# Altium footprint library micro-philips.PCBLIB: 60 footprints (part 2 of 5)
Each footprint in its own frame and in the unit in brackets; x right, y up, seen from the top. Pads: shape width x height; smd on the part's side, far side on the other; paste and mask are expansions set on the pad; w line width, h text height; cw(c..) or ccw(c..) is an arc to the next point about the centre after c.
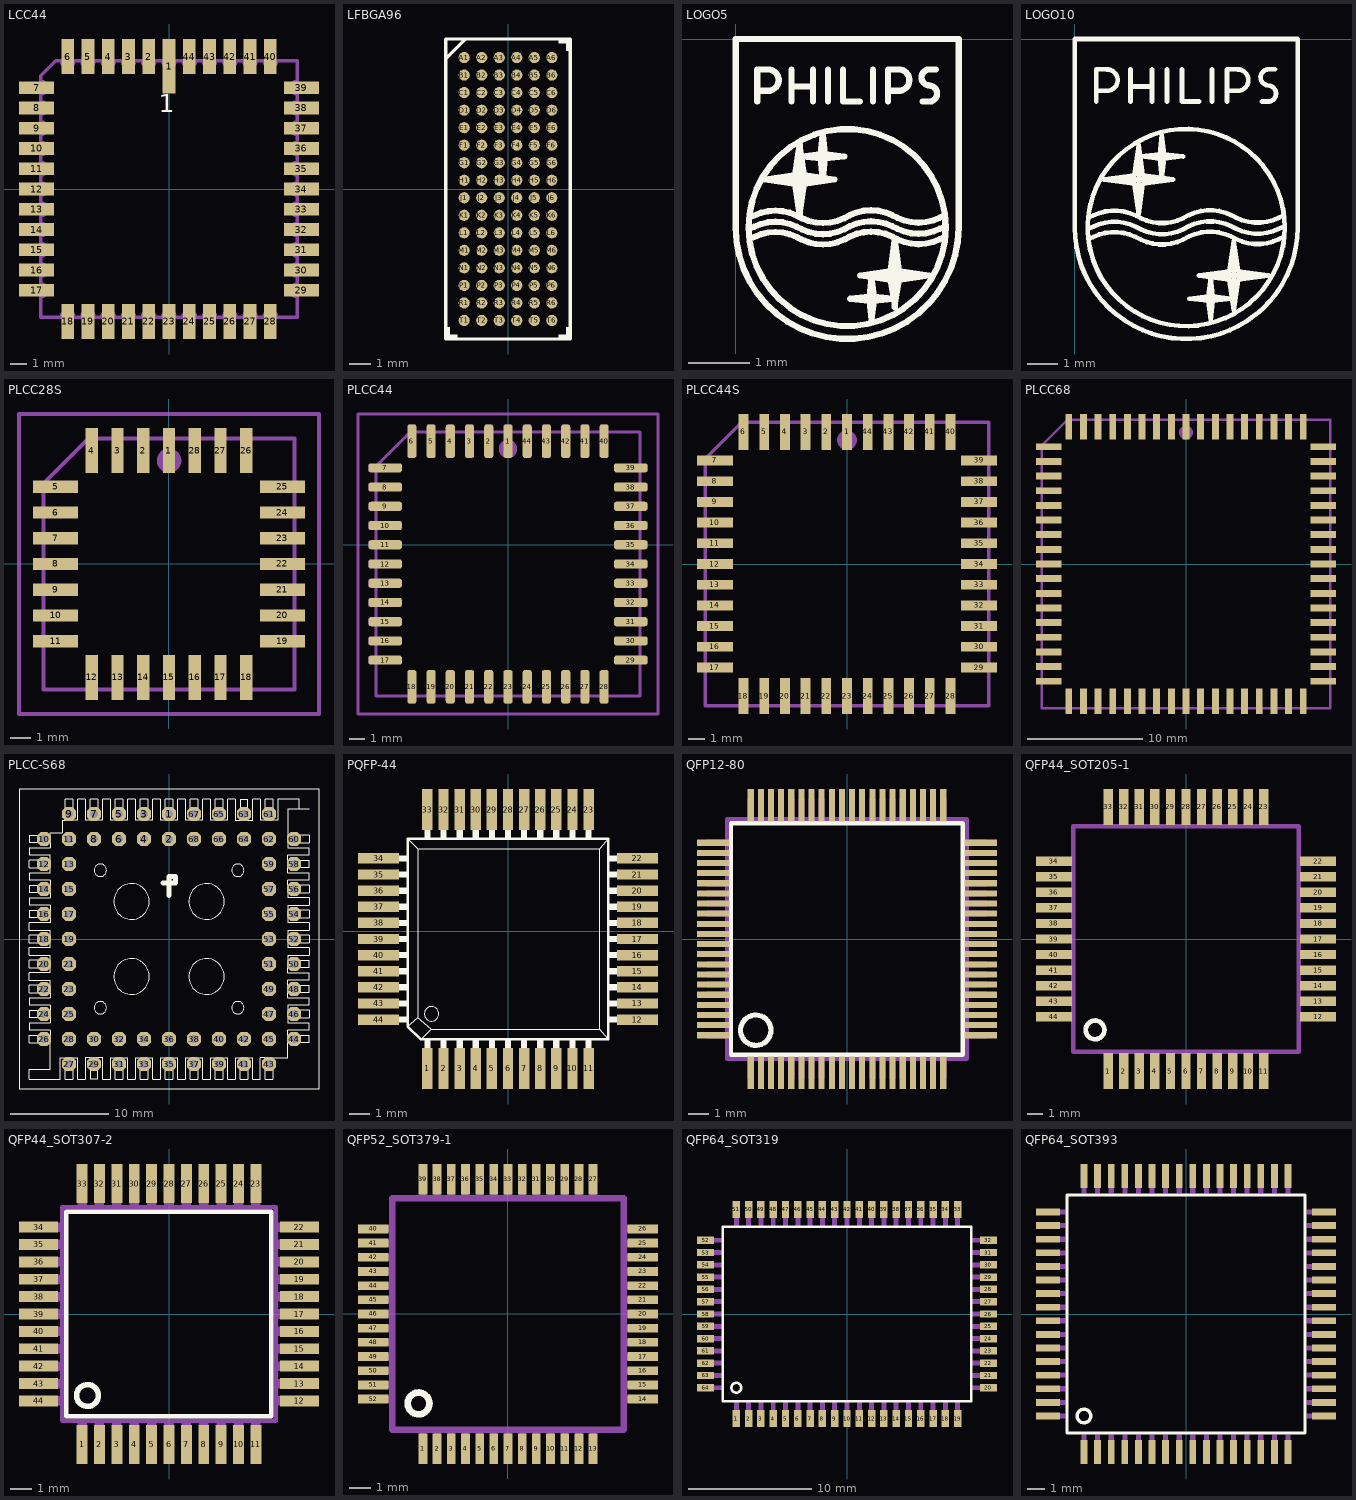
[diagram p1: the footprints below, top view; thin cyan lines are the x and y axes]

## LCC44 [mil]
pads (44):
  rect 31.5x133.86 smd: 1(0,303.15)
  rect 31.5x86.61 smd: 2(-50,326.77) 3(-100,326.77) 4(-150,326.77) 5(-200,326.77) 6(-250,326.77) 18(-250,-326.77) 19(-200,-326.77) 20(-150,-326.77) 21(-100,-326.77) 22(-50,-326.77) 23(0,-326.77) 24(50,-326.77) 25(100,-326.77) 26(150,-326.77) 27(200,-326.77) 28(250,-326.77) 40(250,326.77) 41(200,326.77) 42(150,326.77) 43(100,326.77) 44(50,326.77)
  rect 86.61x31.5 smd: 7(-326.77,250) 8(-326.77,200) 9(-326.77,150) 10(-326.77,100) 11(-326.77,50) 12(-326.77,0) 13(-326.77,-50) 14(-326.77,-100) 15(-326.77,-150) 16(-326.77,-200) 17(-326.77,-250) 29(326.77,-250) 30(326.77,-200) 31(326.77,-150) 32(326.77,-100) 33(326.77,-50) 34(326.77,0) 35(326.77,50) 36(326.77,100) 37(326.77,150) 38(326.77,200) 39(326.77,250)
Top Overlay:
  text "1" at -25,175 h77.5
Mechanical 16:
  lines w8: -316.14,-265.75 -316.14,-316.14 -265.75,-316.14 ; -316.14,-234.25 -316.14,-215.75 ; -316.14,-184.25 -316.14,-165.75 ; -316.14,-134.25 -316.14,-115.75 ; -316.14,-84.25 -316.14,-65.75 ; -316.14,-34.25 -316.14,-15.75 ; -316.14,15.75 -316.14,34.25 ; -316.14,65.75 -316.14,84.25 ; -316.14,115.75 -316.14,134.25 ; -316.14,165.75 -316.14,184.25 ; -316.14,215.75 -316.14,234.25 ; -316.14,265.75 -316.14,279.92 -279.92,316.14 -265.75,316.14 ; -316.08,-265.75 ccw(c-316.08,-250) -316.08,-234.25 ; -316.08,-215.75 ccw(c-316.08,-200) -316.08,-184.25 ; -316.08,-165.75 ccw(c-316.08,-150) -316.08,-134.25 ; -316.08,-115.75 ccw(c-316.08,-100) -316.08,-84.25 ; -316.08,-65.75 ccw(c-316.08,-50) -316.08,-34.25 ; -316.08,-15.75 ccw(c-316.08,0) -316.08,15.75 ; -316.08,34.25 ccw(c-316.08,50) -316.08,65.75 ; -316.08,84.25 ccw(c-316.08,100) -316.08,115.75 ; -316.08,134.25 ccw(c-316.08,150) -316.08,165.75 ; -316.08,184.25 ccw(c-316.08,200) -316.08,215.75 ; -316.08,234.25 ccw(c-316.08,250) -316.08,265.75 ; -265.75,-316.08 cw(c-250,-316.08) -234.25,-316.08 ; -265.75,316.08 ccw(c-250,316.08) -234.25,316.08 ; -234.25,-316.14 -215.75,-316.14 ; -234.25,316.14 -215.75,316.14 ; -215.75,-316.08 cw(c-200,-316.08) -184.25,-316.08 ; -215.75,316.08 ccw(c-200,316.08) -184.25,316.08 ; -184.25,-316.14 -165.75,-316.14 ; -184.25,316.14 -165.75,316.14 ; -165.75,-316.08 cw(c-150,-316.08) -134.25,-316.08 ; -165.75,316.08 ccw(c-150,316.08) -134.25,316.08 ; -134.25,-316.14 -115.75,-316.14 ; -134.25,316.14 -115.75,316.14 ; -115.75,-316.08 cw(c-100,-316.08) -84.25,-316.08 ; -115.75,316.08 ccw(c-100,316.08) -84.25,316.08 ; -84.25,-316.14 -65.75,-316.14 ; -84.25,316.14 -65.75,316.14 ; -65.75,-316.08 cw(c-50,-316.08) -34.25,-316.08 ; -65.75,316.08 ccw(c-50,316.08) -34.25,316.08 ; -34.25,-316.14 -15.75,-316.14 ; -34.25,316.14 -15.75,316.14 ; -15.75,-316.08 cw(c0,-316.08) 15.75,-316.08 ; -15.75,316.08 ccw(c0,316.08) 15.75,316.08 ; 15.75,-316.14 34.25,-316.14 ; 15.75,316.14 34.25,316.14 ; 34.25,-316.08 cw(c50,-316.08) 65.75,-316.08 ; 34.25,316.08 ccw(c50,316.08) 65.75,316.08 ; 65.75,-316.14 84.25,-316.14 ; 65.75,316.14 84.25,316.14 ; 84.25,-316.08 cw(c100,-316.08) 115.75,-316.08 ; 84.25,316.08 ccw(c100,316.08) 115.75,316.08 ; 115.75,-316.14 134.25,-316.14 ; 115.75,316.14 134.25,316.14 ; 134.25,-316.08 cw(c150,-316.08) 165.75,-316.08 ; 134.25,316.08 ccw(c150,316.08) 165.75,316.08 ; 165.75,-316.14 184.25,-316.14 ; 165.75,316.14 184.25,316.14 ; 184.25,-316.08 cw(c200,-316.08) 215.75,-316.08 ; 184.25,316.08 ccw(c200,316.08) 215.75,316.08 ; 215.75,-316.14 234.25,-316.14 ; 215.75,316.14 234.25,316.14 ; 234.25,-316.08 cw(c250,-316.08) 265.75,-316.08 ; 234.25,316.08 ccw(c250,316.08) 265.75,316.08 ; 265.75,-316.14 316.14,-316.14 316.14,-265.75 ; 265.75,316.14 316.14,316.14 316.14,265.75 ; 316.08,-265.75 cw(c316.08,-250) 316.08,-234.25 ; 316.08,-215.75 cw(c316.08,-200) 316.08,-184.25 ; 316.08,-165.75 cw(c316.08,-150) 316.08,-134.25 ; 316.08,-115.75 cw(c316.08,-100) 316.08,-84.25 ; 316.08,-65.75 cw(c316.08,-50) 316.08,-34.25 ; 316.08,-15.75 cw(c316.08,0) 316.08,15.75 ; 316.08,34.25 cw(c316.08,50) 316.08,65.75 ; 316.08,84.25 cw(c316.08,100) 316.08,115.75 ; 316.08,134.25 cw(c316.08,150) 316.08,165.75 ; 316.08,184.25 cw(c316.08,200) 316.08,215.75 ; 316.08,234.25 cw(c316.08,250) 316.08,265.75 ; 316.14,-234.25 316.14,-215.75 ; 316.14,-184.25 316.14,-165.75 ; 316.14,-134.25 316.14,-115.75 ; 316.14,-84.25 316.14,-65.75 ; 316.14,-34.25 316.14,-15.75 ; 316.14,15.75 316.14,34.25 ; 316.14,65.75 316.14,84.25 ; 316.14,115.75 316.14,134.25 ; 316.14,165.75 316.14,184.25 ; 316.14,215.75 316.14,234.25

## LFBGA96 [mm]
pads (96):
  rrect100% 0.51x0.51 smd: A1(-2,6) A2(-1.2,6) A3(-0.4,6) A4(0.4,6) A5(1.2,6) A6(2,6) B1(-2,5.2) B2(-1.2,5.2) B3(-0.4,5.2) B4(0.4,5.2) B5(1.2,5.2) B6(2,5.2) C1(-2,4.4) C2(-1.2,4.4) C3(-0.4,4.4) C4(0.4,4.4) C5(1.2,4.4) C6(2,4.4) D1(-2,3.6) D2(-1.2,3.6) D3(-0.4,3.6) D4(0.4,3.6) D5(1.2,3.6) D6(2,3.6) E1(-2,2.8) E2(-1.2,2.8) E3(-0.4,2.8) E4(0.4,2.8) E5(1.2,2.8) E6(2,2.8) F1(-2,2) F2(-1.2,2) F3(-0.4,2) F4(0.4,2) F5(1.2,2) F6(2,2) G1(-2,1.2) G2(-1.2,1.2) G3(-0.4,1.2) G4(0.4,1.2) G5(1.2,1.2) G6(2,1.2) H1(-2,0.4) H2(-1.2,0.4) H3(-0.4,0.4) H4(0.4,0.4) H5(1.2,0.4) H6(2,0.4) J1(-2,-0.4) J2(-1.2,-0.4) J3(-0.4,-0.4) J4(0.4,-0.4) J5(1.2,-0.4) J6(2,-0.4) K1(-2,-1.2) K2(-1.2,-1.2) K3(-0.4,-1.2) K4(0.4,-1.2) K5(1.2,-1.2) K6(2,-1.2) L1(-2,-2) L2(-1.2,-2) L3(-0.4,-2) L4(0.4,-2) L5(1.2,-2) L6(2,-2) M1(-2,-2.8) M2(-1.2,-2.8) M3(-0.4,-2.8) M4(0.4,-2.8) M5(1.2,-2.8) M6(2,-2.8) N1(-2,-3.6) N2(-1.2,-3.6) N3(-0.4,-3.6) N4(0.4,-3.6) N5(1.2,-3.6) N6(2,-3.6) P1(-2,-4.4) P2(-1.2,-4.4) P3(-0.4,-4.4) P4(0.4,-4.4) P5(1.2,-4.4) P6(2,-4.4) R1(-2,-5.2) R2(-1.2,-5.2) R3(-0.4,-5.2) R4(0.4,-5.2) R5(1.2,-5.2) R6(2,-5.2) T1(-2,-6) T2(-1.2,-6) T3(-0.4,-6) T4(0.4,-6) T5(1.2,-6) T6(2,-6)
Top Overlay:
  rectangle: 2.3,6.65 2.8,6.8
  rectangle: 2.65,6.3 2.8,6.8
  rectangle: 2.65,-6.8 2.8,-6.3
  rectangle: 2.3,-6.8 2.8,-6.65
  rectangle: -2.8,-6.8 -2.3,-6.65
  rectangle: -2.8,-6.8 -2.65,-6.3
  lines w0.152: -2.8,6 -2,6.8 ; -2.85,-6.85 2.85,-6.85 2.85,6.85 -2.85,6.85 -2.85,-6.85

## LOGO5 [mm]
Top Overlay:
  circle w0.102: c1.813,-3.067 r1.604
  lines w0.102: 0.23,-3.249 0.3,-3.221 cw(c0.645,-3.918) 0.99,-3.221 1.074,-3.263 ccw(c1.419,-2.566) 1.764,-3.263 1.855,-3.214 cw(c2.2,-3.911) 2.545,-3.214 2.629,-3.256 ccw(c2.974,-2.559) 3.319,-3.256 ; 0.23,-3.081 0.3,-3.054 cw(c0.645,-3.751) 0.99,-3.054 1.074,-3.095 ccw(c1.419,-2.398) 1.764,-3.095 1.855,-3.047 cw(c2.2,-3.744) 2.545,-3.047 2.629,-3.088 ccw(c2.974,-2.391) 3.319,-3.088 ; 0.23,-2.9 0.3,-2.872 cw(c0.645,-3.569) 0.99,-2.872 1.074,-2.914 ccw(c1.419,-2.217) 1.764,-2.914 1.855,-2.865 cw(c2.2,-3.562) 2.545,-2.865 2.629,-2.907 ccw(c2.974,-2.21) 3.319,-2.907 ; 0.349,-1.018 0.349,-0.843 ; 0.524,-0.495 0.349,-0.495 0.349,-0.843 ; 0.524,-0.494 cw(c0.524,-0.669) 0.524,-0.843 0.349,-0.843 ; 0.907,-1.018 0.907,-0.774 ; 0.907,-0.495 0.907,-0.774 ; 1.039,-2.37 1.039,-2.342 ; 1.256,-1.018 1.256,-0.774 ; 1.256,-0.495 1.256,-0.774 ; 1.5,-1.018 1.5,-0.495 ; 1.744,-0.495 1.744,-1.018 2.023,-1.018 ; 2.21,-4.569 2.21,-3.876 ; 2.232,-1.018 2.232,-0.495 ; 2.476,-1.018 2.476,-0.843 ; 2.587,-4.364 2.587,-4.286 ; 2.587,-3.765 2.587,-3.793 ; 2.65,-0.495 2.476,-0.495 2.476,-0.843 ; 2.65,-0.494 cw(c2.65,-0.669) 2.65,-0.843 2.476,-0.843 ; 3.041,-1.018 3.145,-1.018 ccw(c3.145,-0.888) 3.166,-0.76 3.131,-0.753 cw(c3.152,-0.625) 3.152,-0.495 3.257,-0.495 ; 3.319,-3.256 3.403,-3.214 ; 3.319,-3.088 3.396,-3.054 ; 3.319,-2.907 3.375,-2.879 ; 0.474,-2.287 0.969,-2.356 1.039,-2.851 ; 0.474,-2.287 0.969,-2.217 1.039,-1.722 ; 0.474,-2.287 1.604,-2.287 ; 0.907,-0.774 1.256,-0.774 ; 1.039,-2.851 1.109,-2.356 1.604,-2.287 ; 1.039,-2.851 1.039,-2.342 ; 1.039,-2.342 1.039,-1.722 ; 1.039,-1.722 1.109,-2.217 1.604,-2.287 ; 1.067,-1.91 1.381,-1.945 1.415,-2.259 ; 1.067,-1.91 1.381,-1.875 1.415,-1.561 ; 1.067,-1.91 1.764,-1.91 ; 1.415,-2.259 1.45,-1.945 1.764,-1.91 ; 1.415,-2.259 1.415,-1.561 ; 1.415,-1.561 1.45,-1.875 1.764,-1.91 ; 1.862,-4.225 2.175,-4.26 2.21,-4.573 2.245,-4.26 2.559,-4.225 ; 1.862,-4.225 2.175,-4.19 2.21,-3.876 ; 1.862,-4.225 2.559,-4.225 ; 2.022,-3.848 2.517,-3.918 2.587,-4.286 ; 2.022,-3.848 2.517,-3.779 2.587,-3.284 ; 2.022,-3.848 3.152,-3.848 ; 2.21,-3.876 2.245,-4.19 2.559,-4.225 ; 2.587,-4.286 2.657,-3.918 3.152,-3.848 ; 2.587,-4.286 2.587,-3.793 ; 2.587,-3.793 2.587,-3.284 ; 2.587,-3.284 2.657,-3.779 3.152,-3.848 ; 0,-3.067 ccw(c1.813,-3.067) 3.626,-3.067 3.626,0 0,0 0,-3.067

## LOGO10 [mm]
Top Overlay:
  circle w0.152: c3.626,-6.135 r3.207
  lines w0.152: 0.46,-6.497 0.6,-6.442 cw(c1.29,-7.836) 1.98,-6.442 2.147,-6.525 ccw(c2.837,-5.131) 3.528,-6.525 3.709,-6.428 cw(c4.399,-7.823) 5.09,-6.428 5.257,-6.511 ccw(c5.947,-5.117) 6.638,-6.511 ; 0.46,-6.163 0.6,-6.107 cw(c1.29,-7.501) 1.98,-6.107 2.147,-6.191 ccw(c2.837,-4.797) 3.528,-6.191 3.709,-6.093 cw(c4.399,-7.487) 5.09,-6.093 5.257,-6.177 ccw(c5.947,-4.783) 6.638,-6.177 ; 0.46,-5.8 0.6,-5.744 cw(c1.29,-7.138) 1.98,-5.744 2.147,-5.828 ccw(c2.837,-4.434) 3.528,-5.828 3.709,-5.73 cw(c4.399,-7.125) 5.09,-5.73 5.257,-5.814 ccw(c5.947,-4.42) 6.638,-5.814 ; 0.699,-2.035 0.699,-1.687 ; 1.814,-2.035 1.814,-1.547 ; 1.814,-0.989 1.814,-1.547 ; 2.078,-4.74 2.078,-4.685 ; 2.511,-2.035 2.511,-1.547 ; 2.511,-0.989 2.511,-1.547 ; 3,-2.035 3,-0.989 ; 3.138,-4.573 0.948,-4.573 ; 3.488,-0.989 3.488,-2.035 4.045,-2.035 ; 4.42,-9.139 4.42,-7.752 ; 4.464,-2.035 4.464,-0.989 ; 4.952,-2.035 4.952,-1.687 ; 5.173,-7.529 5.173,-7.585 ; 6.081,-2.035 6.29,-2.035 ccw(c6.29,-1.775) 6.332,-1.519 6.263,-1.505 cw(c6.304,-1.249) 6.304,-0.989 6.514,-0.989 ; 6.638,-6.511 6.805,-6.428 ; 6.638,-6.177 6.791,-6.107 ; 6.638,-5.814 6.749,-5.758 ; 7.251,-6.135 7.251,0 0,0 0,-6.135 ccw(c3.626,-6.135) 7.251,-6.135 ; 0.699,-1.687 0.699,-0.989 1.047,-0.989 cw(c1.047,-1.338) 1.047,-1.687 0.699,-1.687 ; 0.948,-4.573 1.938,-4.713 2.078,-5.703 ; 0.948,-4.573 1.938,-4.434 2.078,-3.444 ; 1.814,-1.547 2.511,-1.547 ; 2.078,-5.703 2.217,-4.713 3.207,-4.573 2.217,-4.434 2.078,-3.444 ; 2.078,-5.703 2.078,-4.685 ; 2.078,-4.685 2.078,-3.444 ; 2.134,-3.82 2.761,-3.89 2.831,-4.517 ; 2.134,-3.82 2.761,-3.75 2.831,-3.123 ; 2.134,-3.82 3.517,-3.82 3.528,-3.82 ; 2.831,-4.517 2.901,-3.89 3.528,-3.82 ; 2.831,-4.517 2.831,-3.123 ; 2.831,-3.123 2.901,-3.75 3.528,-3.82 ; 3.723,-8.45 4.351,-8.519 4.42,-9.147 4.49,-8.519 5.118,-8.45 ; 3.723,-8.45 4.351,-8.38 4.42,-7.752 ; 3.723,-8.45 5.118,-8.45 ; 4.044,-7.697 5.034,-7.836 5.173,-8.826 ; 4.044,-7.697 5.034,-7.557 5.173,-6.567 ; 4.044,-7.697 6.303,-7.697 ; 4.42,-7.752 4.49,-8.38 5.118,-8.45 ; 4.952,-1.687 4.952,-0.989 5.3,-0.989 cw(c5.3,-1.338) 5.3,-1.687 4.952,-1.687 ; 5.173,-8.826 5.313,-7.836 6.303,-7.697 ; 5.173,-8.826 5.173,-7.585 ; 5.173,-7.585 5.173,-6.567 ; 5.173,-6.567 5.313,-7.557 6.303,-7.697

## PLCC28S [mm]
pads (28):
  rect 0.6x2.2 smd: 1(0,5.6) 2(-1.27,5.6) 3(-2.54,5.6) 4(-3.81,5.6) 12(-3.81,-5.6) 13(-2.54,-5.6) 14(-1.27,-5.6) 15(0,-5.6) 16(1.27,-5.6) 17(2.54,-5.6) 18(3.81,-5.6) 26(3.81,5.6) 27(2.54,5.6) 28(1.27,5.6)
  rect 2.2x0.6 smd: 5(-5.6,3.81) 6(-5.6,2.54) 7(-5.6,1.27) 8(-5.6,0) 9(-5.6,-1.27) 10(-5.6,-2.54) 11(-5.6,-3.81) 19(5.6,-3.81) 20(5.6,-2.54) 21(5.6,-1.27) 22(5.6,0) 23(5.6,1.27) 24(5.6,2.54) 25(5.6,3.81)
Mechanical 16:
  circle w0.61: c0,5.1 r0.3
  rectangle: -0.26,6.25 0.26,6.7
  rectangle: -1.53,6.25 -1.01,6.7
  rectangle: -2.8,6.25 -2.28,6.7
  rectangle: -4.07,6.25 -3.55,6.7
  rectangle: -6.7,3.55 -6.25,4.07
  rectangle: -6.7,2.28 -6.25,2.8
  rectangle: -6.7,1.01 -6.25,1.53
  rectangle: -6.7,-0.26 -6.25,0.26
  rectangle: -6.7,-1.53 -6.25,-1.01
  rectangle: -6.7,-2.8 -6.25,-2.28
  rectangle: -6.7,-4.07 -6.25,-3.55
  rectangle: -4.07,-6.7 -3.55,-6.25
  rectangle: -2.8,-6.7 -2.28,-6.25
  rectangle: -1.53,-6.7 -1.01,-6.25
  rectangle: -0.26,-6.7 0.26,-6.25
  rectangle: 1.01,-6.7 1.53,-6.25
  rectangle: 2.28,-6.7 2.8,-6.25
  rectangle: 3.55,-6.7 4.07,-6.25
  rectangle: 6.25,-4.07 6.7,-3.55
  rectangle: 6.25,-2.8 6.7,-2.28
  rectangle: 6.25,-1.53 6.7,-1.01
  rectangle: 6.25,-0.26 6.7,0.26
  rectangle: 6.25,1.01 6.7,1.53
  rectangle: 6.25,2.28 6.7,2.8
  rectangle: 6.25,3.55 6.7,4.07
  rectangle: 3.55,6.25 4.07,6.7
  rectangle: 2.28,6.25 2.8,6.7
  rectangle: 1.01,6.25 1.53,6.7
  lines w0.203: -6.2,-6.2 -6.2,3.965 -3.965,6.2 6.2,6.2 6.2,-6.2 -6.2,-6.2
Mechanical 27:
  lines w0.2: -7.403,-7.403 7.403,-7.403 7.403,7.403 -7.403,7.403 -7.403,-7.403

## PLCC44 [mm]
pads (44):
  rrect50% 0.6x2.2 smd: 1(0,6.83) 2(-1.27,6.83) 3(-2.54,6.83) 4(-3.81,6.83) 5(-5.08,6.83) 6(-6.35,6.83) 18(-6.35,-9.37) 19(-5.08,-9.37) 20(-3.81,-9.37) 21(-2.54,-9.37) 22(-1.27,-9.37) 23(0,-9.37) 24(1.27,-9.37) 25(2.54,-9.37) 26(3.81,-9.37) 27(5.08,-9.37) 28(6.35,-9.37) 40(6.35,6.83) 41(5.08,6.83) 42(3.81,6.83) 43(2.54,6.83) 44(1.27,6.83)
  rrect50% 2.2x0.6 smd: 7(-8.1,5.08) 8(-8.1,3.81) 9(-8.1,2.54) 10(-8.1,1.27) 11(-8.1,0) 12(-8.1,-1.27) 13(-8.1,-2.54) 14(-8.1,-3.81) 15(-8.1,-5.08) 16(-8.1,-6.35) 17(-8.1,-7.62) 29(8.1,-7.62) 30(8.1,-6.35) 31(8.1,-5.08) 32(8.1,-3.81) 33(8.1,-2.54) 34(8.1,-1.27) 35(8.1,0) 36(8.1,1.27) 37(8.1,2.54) 38(8.1,3.81) 39(8.1,5.08)
Mechanical 16:
  circle w0.61: c0,6.33 r0.3
  rectangle: -0.26,7.48 0.26,7.93
  rectangle: -1.53,7.48 -1.01,7.93
  rectangle: -2.8,7.48 -2.28,7.93
  rectangle: -4.07,7.48 -3.55,7.93
  rectangle: -5.34,7.48 -4.82,7.93
  rectangle: -6.61,7.48 -6.09,7.93
  rectangle: -9.2,4.82 -8.75,5.34
  rectangle: -9.2,3.55 -8.75,4.07
  rectangle: -9.2,2.28 -8.75,2.8
  rectangle: -9.2,1.01 -8.75,1.53
  rectangle: -9.2,-0.26 -8.75,0.26
  rectangle: -9.2,-1.53 -8.75,-1.01
  rectangle: -9.2,-2.8 -8.75,-2.28
  rectangle: -9.2,-4.07 -8.75,-3.55
  rectangle: -9.2,-5.34 -8.75,-4.82
  rectangle: -9.2,-6.61 -8.75,-6.09
  rectangle: -9.2,-7.88 -8.75,-7.36
  rectangle: -6.61,-10.47 -6.09,-10.02
  rectangle: -5.34,-10.47 -4.82,-10.02
  rectangle: -4.07,-10.47 -3.55,-10.02
  rectangle: -2.8,-10.47 -2.28,-10.02
  rectangle: -1.53,-10.47 -1.01,-10.02
  rectangle: -0.26,-10.47 0.26,-10.02
  rectangle: 1.01,-10.47 1.53,-10.02
  rectangle: 2.28,-10.47 2.8,-10.02
  rectangle: 3.55,-10.47 4.07,-10.02
  rectangle: 4.82,-10.47 5.34,-10.02
  rectangle: 6.09,-10.47 6.61,-10.02
  rectangle: 8.75,-7.88 9.2,-7.36
  rectangle: 8.75,-6.61 9.2,-6.09
  rectangle: 8.75,-5.34 9.2,-4.82
  rectangle: 8.75,-4.07 9.2,-3.55
  rectangle: 8.75,-2.8 9.2,-2.28
  rectangle: 8.75,-1.53 9.2,-1.01
  rectangle: 8.75,-0.26 9.2,0.26
  rectangle: 8.75,1.01 9.2,1.53
  rectangle: 8.75,2.28 9.2,2.8
  rectangle: 8.75,3.55 9.2,4.07
  rectangle: 8.75,4.82 9.2,5.34
  rectangle: 6.09,7.48 6.61,7.93
  rectangle: 4.82,7.48 5.34,7.93
  rectangle: 3.55,7.48 4.07,7.93
  rectangle: 2.28,7.48 2.8,7.93
  rectangle: 1.01,7.48 1.53,7.93
  lines w0.2: -8.7,-9.97 -8.7,5.195 -6.465,7.43 8.7,7.43 8.7,-9.97 -8.7,-9.97
Mechanical 27:
  lines w0.2: -9.903,-11.173 9.903,-11.173 9.903,8.633 -9.903,8.633 -9.903,-11.173

## PLCC44S [mm]
pads (44):
  rect 0.6x2.2 smd: 1(0,8.1) 2(-1.27,8.1) 3(-2.54,8.1) 4(-3.81,8.1) 5(-5.08,8.1) 6(-6.35,8.1) 18(-6.35,-8.1) 19(-5.08,-8.1) 20(-3.81,-8.1) 21(-2.54,-8.1) 22(-1.27,-8.1) 23(0,-8.1) 24(1.27,-8.1) 25(2.54,-8.1) 26(3.81,-8.1) 27(5.08,-8.1) 28(6.35,-8.1) 40(6.35,8.1) 41(5.08,8.1) 42(3.81,8.1) 43(2.54,8.1) 44(1.27,8.1)
  rect 2.2x0.6 smd: 7(-8.1,6.35) 8(-8.1,5.08) 9(-8.1,3.81) 10(-8.1,2.54) 11(-8.1,1.27) 12(-8.1,0) 13(-8.1,-1.27) 14(-8.1,-2.54) 15(-8.1,-3.81) 16(-8.1,-5.08) 17(-8.1,-6.35) 29(8.1,-6.35) 30(8.1,-5.08) 31(8.1,-3.81) 32(8.1,-2.54) 33(8.1,-1.27) 34(8.1,0) 35(8.1,1.27) 36(8.1,2.54) 37(8.1,3.81) 38(8.1,5.08) 39(8.1,6.35)
Mechanical 16:
  circle w0.61: c0,7.6 r0.3
  rectangle: -0.26,8.75 0.26,9.2
  rectangle: -1.53,8.75 -1.01,9.2
  rectangle: -2.8,8.75 -2.28,9.2
  rectangle: -4.07,8.75 -3.55,9.2
  rectangle: -5.34,8.75 -4.82,9.2
  rectangle: -6.61,8.75 -6.09,9.2
  rectangle: -9.2,6.09 -8.75,6.61
  rectangle: -9.2,4.82 -8.75,5.34
  rectangle: -9.2,3.55 -8.75,4.07
  rectangle: -9.2,2.28 -8.75,2.8
  rectangle: -9.2,1.01 -8.75,1.53
  rectangle: -9.2,-0.26 -8.75,0.26
  rectangle: -9.2,-1.53 -8.75,-1.01
  rectangle: -9.2,-2.8 -8.75,-2.28
  rectangle: -9.2,-4.07 -8.75,-3.55
  rectangle: -9.2,-5.34 -8.75,-4.82
  rectangle: -9.2,-6.61 -8.75,-6.09
  rectangle: -6.61,-9.2 -6.09,-8.75
  rectangle: -5.34,-9.2 -4.82,-8.75
  rectangle: -4.07,-9.2 -3.55,-8.75
  rectangle: -2.8,-9.2 -2.28,-8.75
  rectangle: -1.53,-9.2 -1.01,-8.75
  rectangle: -0.26,-9.2 0.26,-8.75
  rectangle: 1.01,-9.2 1.53,-8.75
  rectangle: 2.28,-9.2 2.8,-8.75
  rectangle: 3.55,-9.2 4.07,-8.75
  rectangle: 4.82,-9.2 5.34,-8.75
  rectangle: 6.09,-9.2 6.61,-8.75
  rectangle: 8.75,-6.61 9.2,-6.09
  rectangle: 8.75,-5.34 9.2,-4.82
  rectangle: 8.75,-4.07 9.2,-3.55
  rectangle: 8.75,-2.8 9.2,-2.28
  rectangle: 8.75,-1.53 9.2,-1.01
  rectangle: 8.75,-0.26 9.2,0.26
  rectangle: 8.75,1.01 9.2,1.53
  rectangle: 8.75,2.28 9.2,2.8
  rectangle: 8.75,3.55 9.2,4.07
  rectangle: 8.75,4.82 9.2,5.34
  rectangle: 8.75,6.09 9.2,6.61
  rectangle: 6.09,8.75 6.61,9.2
  rectangle: 4.82,8.75 5.34,9.2
  rectangle: 3.55,8.75 4.07,9.2
  rectangle: 2.28,8.75 2.8,9.2
  rectangle: 1.01,8.75 1.53,9.2
  lines w0.203: -8.7,-8.7 -8.7,6.465 -6.465,8.7 8.7,8.7 8.7,-8.7 -8.7,-8.7

## PLCC68 [mil]
pads (68):
  rect 23.62x86.61 smd: 1(0,468.5) 2(-50,468.5) 3(-100,468.5) 4(-150,468.5) 5(-200,468.5) 6(-250,468.5) 7(-300,468.5) 8(-350,468.5) 9(-400,468.5) 27(-400,-468.5) 28(-350,-468.5) 29(-300,-468.5) 30(-250,-468.5) 31(-200,-468.5) 32(-150,-468.5) 33(-100,-468.5) 34(-50,-468.5) 35(0,-468.5) 36(50,-468.5) 37(100,-468.5) 38(150,-468.5) 39(200,-468.5) 40(250,-468.5) 41(300,-468.5) 42(350,-468.5) 43(400,-468.5) 61(400,468.5) 62(350,468.5) 63(300,468.5) 64(250,468.5) 65(200,468.5) 66(150,468.5) 67(100,468.5) 68(50,468.5)
  rect 86.61x23.62 smd: 10(-468.5,400) 11(-468.5,350) 12(-468.5,300) 13(-468.5,250) 14(-468.5,200) 15(-468.5,150) 16(-468.5,100) 17(-468.5,50) 18(-468.5,0) 19(-468.5,-50) 20(-468.5,-100) 21(-468.5,-150) 22(-468.5,-200) 23(-468.5,-250) 24(-468.5,-300) 25(-468.5,-350) 26(-468.5,-400) 44(468.5,-400) 45(468.5,-350) 46(468.5,-300) 47(468.5,-250) 48(468.5,-200) 49(468.5,-150) 50(468.5,-100) 51(468.5,-50) 52(468.5,0) 53(468.5,50) 54(468.5,100) 55(468.5,150) 56(468.5,200) 57(468.5,250) 58(468.5,300) 59(468.5,350) 60(468.5,400)
Mechanical 16:
  circle w24: c0,448.82 r11.81
  rectangle: -10.24,494.09 10.24,511.81
  rectangle: -60.24,494.09 -39.76,511.81
  rectangle: -110.24,494.09 -89.76,511.81
  rectangle: -160.24,494.09 -139.76,511.81
  rectangle: -210.24,494.09 -189.76,511.81
  rectangle: -260.24,494.09 -239.76,511.81
  rectangle: -310.24,494.09 -289.76,511.81
  rectangle: -360.24,494.09 -339.76,511.81
  rectangle: -410.24,494.09 -389.76,511.81
  rectangle: -511.81,389.76 -494.09,410.24
  rectangle: -511.81,339.76 -494.09,360.24
  rectangle: -511.81,289.76 -494.09,310.24
  rectangle: -511.81,239.76 -494.09,260.24
  rectangle: -511.81,189.76 -494.09,210.24
  rectangle: -511.81,139.76 -494.09,160.24
  rectangle: -511.81,89.76 -494.09,110.24
  rectangle: -511.81,39.76 -494.09,60.24
  rectangle: -511.81,-10.24 -494.09,10.24
  rectangle: -511.81,-60.24 -494.09,-39.76
  rectangle: -511.81,-110.24 -494.09,-89.76
  rectangle: -511.81,-160.24 -494.09,-139.76
  rectangle: -511.81,-210.24 -494.09,-189.76
  rectangle: -511.81,-260.24 -494.09,-239.76
  rectangle: -511.81,-310.24 -494.09,-289.76
  rectangle: -511.81,-360.24 -494.09,-339.76
  rectangle: -511.81,-410.24 -494.09,-389.76
  rectangle: -410.24,-511.81 -389.76,-494.09
  rectangle: -360.24,-511.81 -339.76,-494.09
  rectangle: -310.24,-511.81 -289.76,-494.09
  rectangle: -260.24,-511.81 -239.76,-494.09
  rectangle: -210.24,-511.81 -189.76,-494.09
  rectangle: -160.24,-511.81 -139.76,-494.09
  rectangle: -110.24,-511.81 -89.76,-494.09
  rectangle: -60.24,-511.81 -39.76,-494.09
  rectangle: -10.24,-511.81 10.24,-494.09
  rectangle: 39.76,-511.81 60.24,-494.09
  rectangle: 89.76,-511.81 110.24,-494.09
  rectangle: 139.76,-511.81 160.24,-494.09
  rectangle: 189.76,-511.81 210.24,-494.09
  rectangle: 239.76,-511.81 260.24,-494.09
  rectangle: 289.76,-511.81 310.24,-494.09
  rectangle: 339.76,-511.81 360.24,-494.09
  rectangle: 389.76,-511.81 410.24,-494.09
  rectangle: 494.09,-410.24 511.81,-389.76
  rectangle: 494.09,-360.24 511.81,-339.76
  rectangle: 494.09,-310.24 511.81,-289.76
  rectangle: 494.09,-260.24 511.81,-239.76
  rectangle: 494.09,-210.24 511.81,-189.76
  rectangle: 494.09,-160.24 511.81,-139.76
  rectangle: 494.09,-110.24 511.81,-89.76
  rectangle: 494.09,-60.24 511.81,-39.76
  rectangle: 494.09,-10.24 511.81,10.24
  rectangle: 494.09,39.76 511.81,60.24
  rectangle: 494.09,89.76 511.81,110.24
  rectangle: 494.09,139.76 511.81,160.24
  rectangle: 494.09,189.76 511.81,210.24
  rectangle: 494.09,239.76 511.81,260.24
  rectangle: 494.09,289.76 511.81,310.24
  rectangle: 494.09,339.76 511.81,360.24
  rectangle: 494.09,389.76 511.81,410.24
  rectangle: 389.76,494.09 410.24,511.81
  rectangle: 339.76,494.09 360.24,511.81
  rectangle: 289.76,494.09 310.24,511.81
  rectangle: 239.76,494.09 260.24,511.81
  rectangle: 189.76,494.09 210.24,511.81
  rectangle: 139.76,494.09 160.24,511.81
  rectangle: 89.76,494.09 110.24,511.81
  rectangle: 39.76,494.09 60.24,511.81
  lines w8: -492.13,-492.13 -492.13,404.13 -404.13,492.13 492.13,492.13 492.13,-492.13 -492.13,-492.13

## PLCC-S68 [mil]
pads (68):
  oct 55x55 hole 32: 1(0,500) 2(0,400) 3(-100,500) 4(-100,400) 5(-200,500) 6(-200,400) 7(-300,500) 8(-300,400) 9(-400,500) 10(-500,400) 11(-400,400) 12(-500,300) 13(-400,300) 14(-500,200) 15(-400,200) 16(-500,100) 17(-400,100) 18(-500,0) 19(-400,0) 20(-500,-100) 21(-400,-100) 22(-500,-200) 23(-400,-200) 24(-500,-300) 25(-400,-300) 26(-500,-400) 27(-400,-500) 28(-400,-400) 29(-300,-500) 30(-300,-400) 31(-200,-500) 32(-200,-400) 33(-100,-500) 34(-100,-400) 35(0,-500) 36(0,-400) 37(100,-500) 38(100,-400) 39(200,-500) 40(200,-400) 41(300,-500) 42(300,-400) 43(400,-500) 44(500,-400) 45(400,-400) 46(500,-300) 47(400,-300) 48(500,-200) 49(400,-200) 50(500,-100) 51(400,-100) 52(500,0) 53(400,0) 54(500,100) 55(400,100) 56(500,200) 57(400,200) 58(500,300) 59(400,300) 60(500,400) 61(400,500) 62(400,400) 63(300,500) 64(300,400) 65(200,500) 66(200,400) 67(100,500) 68(100,400)
Top Overlay:
  drawing of 305 lines, arcs and shapes, not listed

## PQFP-44 [mil]
pads (44):
  rect 20x79 smd: 1(-155,-264) 2(-124,-264) 3(-93,-264) 4(-62,-264) 5(-31,-264) 6(0,-264) 7(31,-264) 8(62,-264) 9(93,-264) 10(124,-264) 11(155,-264) 23(155,234) 24(124,234) 25(93,234) 26(62,234) 27(31,234) 28(0,234) 29(-31,234) 30(-62,234) 31(-93,234) 32(-124,234) 33(-155,234)
  rect 79x20 smd: 12(249,-170) 13(249,-139) 14(249,-108) 15(249,-77) 16(249,-46) 17(249,-15) 18(249,16) 19(249,47) 20(249,78) 21(249,109) 22(249,140) 34(-249,140) 35(-249,109) 36(-249,78) 37(-249,47) 38(-249,16) 39(-249,-15) 40(-249,-46) 41(-249,-77) 42(-249,-108) 43(-249,-139) 44(-249,-170)
Top Overlay:
  circle w2: c-147,-159 r14
  rectangle: 195,134 258,146
  rectangle: -161,180 -149,243
  rectangle: -130,180 -118,243
  rectangle: -99,180 -87,243
  rectangle: -68,180 -56,243
  rectangle: -37,180 -25,243
  rectangle: -6,180 6,243
  rectangle: 25,180 37,243
  rectangle: 56,180 68,243
  rectangle: 87,180 99,243
  rectangle: 118,180 130,243
  rectangle: 149,180 161,243
  rectangle: 195,103 258,115
  rectangle: 195,72 258,84
  rectangle: 195,41 258,53
  rectangle: 195,10 258,22
  rectangle: 195,-21 258,-9
  rectangle: 195,-52 258,-40
  rectangle: 195,-83 258,-71
  rectangle: 195,-114 258,-102
  rectangle: 195,-145 258,-133
  rectangle: 195,-176 258,-164
  rectangle: 149,-273 161,-210
  rectangle: 118,-273 130,-210
  rectangle: 87,-273 99,-210
  rectangle: 56,-273 68,-210
  rectangle: 25,-273 37,-210
  rectangle: -6,-273 6,-210
  rectangle: -37,-273 -25,-210
  rectangle: -68,-273 -56,-210
  rectangle: -99,-273 -87,-210
  rectangle: -130,-273 -118,-210
  rectangle: -161,-273 -149,-210
  rectangle: -258,-176 -195,-164
  rectangle: -258,-145 -195,-133
  rectangle: -258,-114 -195,-102
  rectangle: -258,-83 -195,-71
  rectangle: -258,-52 -195,-40
  rectangle: -258,-21 -195,-9
  rectangle: -258,10 -195,22
  rectangle: -258,41 -195,53
  rectangle: -258,72 -195,84
  rectangle: -258,103 -195,115
  rectangle: -258,134 -195,146
  lines w2: -193,-183 -174,-166 ; -193,178 -174,159 ; -167,-208 -148,-189 ; 193,-208 176,-189 ; 193,178 176,159 ; -174,-166 -174,159 ; -174,-166 -148,-189 ; -174,159 176,159 ; -148,-189 176,-189 ; 176,-189 176,159
  lines w5: -193,-183 -193,178 193,178 193,-208 -167,-208 -193,-183

## QFP12-80 [mm]
pads (80):
  rect 0.3x1.6 smd: 1(-4.75,-6.6) 2(-4.25,-6.6) 3(-3.75,-6.6) 4(-3.25,-6.6) 5(-2.75,-6.6) 6(-2.25,-6.6) 7(-1.75,-6.6) 8(-1.25,-6.6) 9(-0.75,-6.6) 10(-0.25,-6.6) 11(0.25,-6.6) 12(0.75,-6.6) 13(1.25,-6.6) 14(1.75,-6.6) 15(2.25,-6.6) 16(2.75,-6.6) 17(3.25,-6.6) 18(3.75,-6.6) 19(4.25,-6.6) 20(4.75,-6.6) 41(4.75,6.6) 42(4.25,6.6) 43(3.75,6.6) 44(3.25,6.6) 45(2.75,6.6) 46(2.25,6.6) 47(1.75,6.6) 48(1.25,6.6) 49(0.75,6.6) 50(0.25,6.6) 51(-0.25,6.6) 52(-0.75,6.6) 53(-1.25,6.6) 54(-1.75,6.6) 55(-2.25,6.6) 56(-2.75,6.6) 57(-3.25,6.6) 58(-3.75,6.6) 59(-4.25,6.6) 60(-4.75,6.6)
  rect 1.6x0.3 smd: 21(6.6,-4.75) 22(6.6,-4.25) 23(6.6,-3.75) 24(6.6,-3.25) 25(6.6,-2.75) 26(6.6,-2.25) 27(6.6,-1.75) 28(6.6,-1.25) 29(6.6,-0.75) 30(6.6,-0.25) 31(6.6,0.25) 32(6.6,0.75) 33(6.6,1.25) 34(6.6,1.75) 35(6.6,2.25) 36(6.6,2.75) 37(6.6,3.25) 38(6.6,3.75) 39(6.6,4.25) 40(6.6,4.75) 61(-6.6,4.75) 62(-6.6,4.25) 63(-6.6,3.75) 64(-6.6,3.25) 65(-6.6,2.75) 66(-6.6,2.25) 67(-6.6,1.75) 68(-6.6,1.25) 69(-6.6,0.75) 70(-6.6,0.25) 71(-6.6,-0.25) 72(-6.6,-0.75) 73(-6.6,-1.25) 74(-6.6,-1.75) 75(-6.6,-2.25) 76(-6.6,-2.75) 77(-6.6,-3.25) 78(-6.6,-3.75) 79(-6.6,-4.25) 80(-6.6,-4.75)
Top Overlay:
  circle w0.254: c-4.5,-4.5 r0.75
  lines w0.203: -5.72,-5.71 5.71,-5.71 5.71,5.71 -5.72,5.71 -5.72,-5.71
Mechanical 16:
  rectangle: -4.9,-6.9 -4.6,-5.95
  rectangle: -4.4,-6.9 -4.1,-5.95
  rectangle: -3.9,-6.9 -3.6,-5.95
  rectangle: -3.4,-6.9 -3.1,-5.95
  rectangle: -2.9,-6.9 -2.6,-5.95
  rectangle: -2.4,-6.9 -2.1,-5.95
  rectangle: -1.9,-6.9 -1.6,-5.95
  rectangle: -1.4,-6.9 -1.1,-5.95
  rectangle: -0.9,-6.9 -0.6,-5.95
  rectangle: -0.4,-6.9 -0.1,-5.95
  rectangle: 0.1,-6.9 0.4,-5.95
  rectangle: 0.6,-6.9 0.9,-5.95
  rectangle: 1.1,-6.9 1.4,-5.95
  rectangle: 1.6,-6.9 1.9,-5.95
  rectangle: 2.1,-6.9 2.4,-5.95
  rectangle: 2.6,-6.9 2.9,-5.95
  rectangle: 3.1,-6.9 3.4,-5.95
  rectangle: 3.6,-6.9 3.9,-5.95
  rectangle: 4.1,-6.9 4.4,-5.95
  rectangle: 4.6,-6.9 4.9,-5.95
  rectangle: 5.95,-4.9 6.9,-4.6
  rectangle: 5.95,-4.4 6.9,-4.1
  rectangle: 5.95,-3.9 6.9,-3.6
  rectangle: 5.95,-3.4 6.9,-3.1
  rectangle: 5.95,-2.9 6.9,-2.6
  rectangle: 5.95,-2.4 6.9,-2.1
  rectangle: 5.95,-1.9 6.9,-1.6
  rectangle: 5.95,-1.4 6.9,-1.1
  rectangle: 5.95,-0.9 6.9,-0.6
  rectangle: 5.95,-0.4 6.9,-0.1
  rectangle: 5.95,0.1 6.9,0.4
  rectangle: 5.95,0.6 6.9,0.9
  rectangle: 5.95,1.1 6.9,1.4
  rectangle: 5.95,1.6 6.9,1.9
  rectangle: 5.95,2.1 6.9,2.4
  rectangle: 5.95,2.6 6.9,2.9
  rectangle: 5.95,3.1 6.9,3.4
  rectangle: 5.95,3.6 6.9,3.9
  rectangle: 5.95,4.1 6.9,4.4
  rectangle: 5.95,4.6 6.9,4.9
  rectangle: 4.6,5.95 4.9,6.9
  rectangle: 4.1,5.95 4.4,6.9
  rectangle: 3.6,5.95 3.9,6.9
  rectangle: 3.1,5.95 3.4,6.9
  rectangle: 2.6,5.95 2.9,6.9
  rectangle: 2.1,5.95 2.4,6.9
  rectangle: 1.6,5.95 1.9,6.9
  rectangle: 1.1,5.95 1.4,6.9
  rectangle: 0.6,5.95 0.9,6.9
  rectangle: 0.1,5.95 0.4,6.9
  rectangle: -0.4,5.95 -0.1,6.9
  rectangle: -0.9,5.95 -0.6,6.9
  rectangle: -1.4,5.95 -1.1,6.9
  rectangle: -1.9,5.95 -1.6,6.9
  rectangle: -2.4,5.95 -2.1,6.9
  rectangle: -2.9,5.95 -2.6,6.9
  rectangle: -3.4,5.95 -3.1,6.9
  rectangle: -3.9,5.95 -3.6,6.9
  rectangle: -4.4,5.95 -4.1,6.9
  rectangle: -4.9,5.95 -4.6,6.9
  rectangle: -6.9,4.6 -5.95,4.9
  rectangle: -6.9,4.1 -5.95,4.4
  rectangle: -6.9,3.6 -5.95,3.9
  rectangle: -6.9,3.1 -5.95,3.4
  rectangle: -6.9,2.6 -5.95,2.9
  rectangle: -6.9,2.1 -5.95,2.4
  rectangle: -6.9,1.6 -5.95,1.9
  rectangle: -6.9,1.1 -5.95,1.4
  rectangle: -6.9,0.6 -5.95,0.9
  rectangle: -6.9,0.1 -5.95,0.4
  rectangle: -6.9,-0.4 -5.95,-0.1
  rectangle: -6.9,-0.9 -5.95,-0.6
  rectangle: -6.9,-1.4 -5.95,-1.1
  rectangle: -6.9,-1.9 -5.95,-1.6
  rectangle: -6.9,-2.4 -5.95,-2.1
  rectangle: -6.9,-2.9 -5.95,-2.6
  rectangle: -6.9,-3.4 -5.95,-3.1
  rectangle: -6.9,-3.9 -5.95,-3.6
  rectangle: -6.9,-4.4 -5.95,-4.1
  rectangle: -6.9,-4.9 -5.95,-4.6
  lines w0.203: -5.91,-5.91 5.91,-5.91 5.91,5.91 -5.91,5.91 -5.91,-5.91

## QFP44_SOT205-1 [mm]
pads (44):
  rect 0.6x2.3 smd: 1(-5,-8.5) 2(-4,-8.5) 3(-3,-8.5) 4(-2,-8.5) 5(-1,-8.5) 6(0,-8.5) 7(1,-8.5) 8(2,-8.5) 9(3,-8.5) 10(4,-8.5) 11(5,-8.5) 23(5,8.5) 24(4,8.5) 25(3,8.5) 26(2,8.5) 27(1,8.5) 28(0,8.5) 29(-1,8.5) 30(-2,8.5) 31(-3,8.5) 32(-4,8.5) 33(-5,8.5)
  rect 2.3x0.6 smd: 12(8.5,-5) 13(8.5,-4) 14(8.5,-3) 15(8.5,-2) 16(8.5,-1) 17(8.5,0) 18(8.5,1) 19(8.5,2) 20(8.5,3) 21(8.5,4) 22(8.5,5) 34(-8.5,5) 35(-8.5,4) 36(-8.5,3) 37(-8.5,2) 38(-8.5,1) 39(-8.5,0) 40(-8.5,-1) 41(-8.5,-2) 42(-8.5,-3) 43(-8.5,-4) 44(-8.5,-5)
Top Overlay:
  circle w0.305: c-5.85,-5.85 r0.6
Mechanical 16:
  rectangle: -5.25,-9.2 -4.75,-7.35
  rectangle: -4.25,-9.2 -3.75,-7.35
  rectangle: -3.25,-9.2 -2.75,-7.35
  rectangle: -2.25,-9.2 -1.75,-7.35
  rectangle: -1.25,-9.2 -0.75,-7.35
  rectangle: -0.25,-9.2 0.25,-7.35
  rectangle: 0.75,-9.2 1.25,-7.35
  rectangle: 1.75,-9.2 2.25,-7.35
  rectangle: 2.75,-9.2 3.25,-7.35
  rectangle: 3.75,-9.2 4.25,-7.35
  rectangle: 4.75,-9.2 5.25,-7.35
  rectangle: 7.35,-5.25 9.2,-4.75
  rectangle: 7.35,-4.25 9.2,-3.75
  rectangle: 7.35,-3.25 9.2,-2.75
  rectangle: 7.35,-2.25 9.2,-1.75
  rectangle: 7.35,-1.25 9.2,-0.75
  rectangle: 7.35,-0.25 9.2,0.25
  rectangle: 7.35,0.75 9.2,1.25
  rectangle: 7.35,1.75 9.2,2.25
  rectangle: 7.35,2.75 9.2,3.25
  rectangle: 7.35,3.75 9.2,4.25
  rectangle: 7.35,4.75 9.2,5.25
  rectangle: 4.75,7.35 5.25,9.2
  rectangle: 3.75,7.35 4.25,9.2
  rectangle: 2.75,7.35 3.25,9.2
  rectangle: 1.75,7.35 2.25,9.2
  rectangle: 0.75,7.35 1.25,9.2
  rectangle: -0.25,7.35 0.25,9.2
  rectangle: -1.25,7.35 -0.75,9.2
  rectangle: -2.25,7.35 -1.75,9.2
  rectangle: -3.25,7.35 -2.75,9.2
  rectangle: -4.25,7.35 -3.75,9.2
  rectangle: -5.25,7.35 -4.75,9.2
  rectangle: -9.2,4.75 -7.35,5.25
  rectangle: -9.2,3.75 -7.35,4.25
  rectangle: -9.2,2.75 -7.35,3.25
  rectangle: -9.2,1.75 -7.35,2.25
  rectangle: -9.2,0.75 -7.35,1.25
  rectangle: -9.2,-0.25 -7.35,0.25
  rectangle: -9.2,-1.25 -7.35,-0.75
  rectangle: -9.2,-2.25 -7.35,-1.75
  rectangle: -9.2,-3.25 -7.35,-2.75
  rectangle: -9.2,-4.25 -7.35,-3.75
  rectangle: -9.2,-5.25 -7.35,-4.75
  lines w0.305: -7.25,-7.25 7.25,-7.25 7.25,7.25 -7.25,7.25 -7.25,-7.25

## QFP44_SOT307-2 [mm]
pads (44):
  rect 0.5x1.8 smd: 1(-4,-6) 2(-3.2,-6) 3(-2.4,-6) 4(-1.6,-6) 5(-0.8,-6) 6(0,-6) 7(0.8,-6) 8(1.6,-6) 9(2.4,-6) 10(3.2,-6) 11(4,-6) 23(4,6) 24(3.2,6) 25(2.4,6) 26(1.6,6) 27(0.8,6) 28(0,6) 29(-0.8,6) 30(-1.6,6) 31(-2.4,6) 32(-3.2,6) 33(-4,6)
  rect 1.8x0.5 smd: 12(6,-4) 13(6,-3.2) 14(6,-2.4) 15(6,-1.6) 16(6,-0.8) 17(6,0) 18(6,0.8) 19(6,1.6) 20(6,2.4) 21(6,3.2) 22(6,4) 34(-6,4) 35(-6,3.2) 36(-6,2.4) 37(-6,1.6) 38(-6,0.8) 39(-6,0) 40(-6,-0.8) 41(-6,-1.6) 42(-6,-2.4) 43(-6,-3.2) 44(-6,-4)
Top Overlay:
  circle w0.254: c-3.75,-3.75 r0.5
  lines w0.203: -4.72,-4.71 4.71,-4.71 4.71,4.71 -4.72,4.71 -4.72,-4.71
Mechanical 16:
  rectangle: -4.22,-6.72 -3.78,-4.95
  rectangle: -3.42,-6.72 -2.98,-4.95
  rectangle: -2.62,-6.72 -2.18,-4.95
  rectangle: -1.82,-6.72 -1.38,-4.95
  rectangle: -1.02,-6.72 -0.58,-4.95
  rectangle: -0.22,-6.72 0.22,-4.95
  rectangle: 0.58,-6.72 1.02,-4.95
  rectangle: 1.38,-6.72 1.82,-4.95
  rectangle: 2.18,-6.72 2.62,-4.95
  rectangle: 2.98,-6.72 3.42,-4.95
  rectangle: 3.78,-6.72 4.22,-4.95
  rectangle: 4.95,-4.22 6.72,-3.78
  rectangle: 4.95,-3.42 6.72,-2.98
  rectangle: 4.95,-2.62 6.72,-2.18
  rectangle: 4.95,-1.82 6.72,-1.38
  rectangle: 4.95,-1.02 6.72,-0.58
  rectangle: 4.95,-0.22 6.72,0.22
  rectangle: 4.95,0.58 6.72,1.02
  rectangle: 4.95,1.38 6.72,1.82
  rectangle: 4.95,2.18 6.72,2.62
  rectangle: 4.95,2.98 6.72,3.42
  rectangle: 4.95,3.78 6.72,4.22
  rectangle: 3.78,4.95 4.22,6.72
  rectangle: 2.98,4.95 3.42,6.72
  rectangle: 2.18,4.95 2.62,6.72
  rectangle: 1.38,4.95 1.82,6.72
  rectangle: 0.58,4.95 1.02,6.72
  rectangle: -0.22,4.95 0.22,6.72
  rectangle: -1.02,4.95 -0.58,6.72
  rectangle: -1.82,4.95 -1.38,6.72
  rectangle: -2.62,4.95 -2.18,6.72
  rectangle: -3.42,4.95 -2.98,6.72
  rectangle: -4.22,4.95 -3.78,6.72
  rectangle: -6.72,3.78 -4.95,4.22
  rectangle: -6.72,2.98 -4.95,3.42
  rectangle: -6.72,2.18 -4.95,2.62
  rectangle: -6.72,1.38 -4.95,1.82
  rectangle: -6.72,0.58 -4.95,1.02
  rectangle: -6.72,-0.22 -4.95,0.22
  rectangle: -6.72,-1.02 -4.95,-0.58
  rectangle: -6.72,-1.82 -4.95,-1.38
  rectangle: -6.72,-2.62 -4.95,-2.18
  rectangle: -6.72,-3.42 -4.95,-2.98
  rectangle: -6.72,-4.22 -4.95,-3.78
  lines w0.203: -4.91,-4.91 4.91,-4.91 4.91,4.91 -4.91,4.91 -4.91,-4.91

## QFP52_SOT379-1 [mm]
pads (52):
  rect 0.4x1.4 smd: 1(-3.9,-6.175) 2(-3.25,-6.175) 3(-2.6,-6.175) 4(-1.95,-6.175) 5(-1.3,-6.175) 6(-0.65,-6.175) 7(0,-6.175) 8(0.65,-6.175) 9(1.3,-6.175) 10(1.95,-6.175) 11(2.6,-6.175) 12(3.25,-6.175) 13(3.9,-6.175) 27(3.9,6.175) 28(3.25,6.175) 29(2.6,6.175) 30(1.95,6.175) 31(1.3,6.175) 32(0.65,6.175) 33(0,6.175) 34(-0.65,6.175) 35(-1.3,6.175) 36(-1.95,6.175) 37(-2.6,6.175) 38(-3.25,6.175) 39(-3.9,6.175)
  rect 1.4x0.4 smd: 14(6.175,-3.9) 15(6.175,-3.25) 16(6.175,-2.6) 17(6.175,-1.95) 18(6.175,-1.3) 19(6.175,-0.65) 20(6.175,0) 21(6.175,0.65) 22(6.175,1.3) 23(6.175,1.95) 24(6.175,2.6) 25(6.175,3.25) 26(6.175,3.9) 40(-6.175,3.9) 41(-6.175,3.25) 42(-6.175,2.6) 43(-6.175,1.95) 44(-6.175,1.3) 45(-6.175,0.65) 46(-6.175,0) 47(-6.175,-0.65) 48(-6.175,-1.3) 49(-6.175,-1.95) 50(-6.175,-2.6) 51(-6.175,-3.25) 52(-6.175,-3.9)
Top Overlay:
  circle w0.305: c-4.1,-4.1 r0.5
Mechanical 16:
  rectangle: -4.05,-6.6 -3.75,-5.4
  rectangle: -3.4,-6.6 -3.1,-5.4
  rectangle: -2.75,-6.6 -2.45,-5.4
  rectangle: -2.1,-6.6 -1.8,-5.4
  rectangle: -1.45,-6.6 -1.15,-5.4
  rectangle: -0.8,-6.6 -0.5,-5.4
  rectangle: -0.15,-6.6 0.15,-5.4
  rectangle: 0.5,-6.6 0.8,-5.4
  rectangle: 1.15,-6.6 1.45,-5.4
  rectangle: 1.8,-6.6 2.1,-5.4
  rectangle: 2.45,-6.6 2.75,-5.4
  rectangle: 3.1,-6.6 3.4,-5.4
  rectangle: 3.75,-6.6 4.05,-5.4
  rectangle: 5.4,-4.05 6.6,-3.75
  rectangle: 5.4,-3.4 6.6,-3.1
  rectangle: 5.4,-2.75 6.6,-2.45
  rectangle: 5.4,-2.1 6.6,-1.8
  rectangle: 5.4,-1.45 6.6,-1.15
  rectangle: 5.4,-0.8 6.6,-0.5
  rectangle: 5.4,-0.15 6.6,0.15
  rectangle: 5.4,0.5 6.6,0.8
  rectangle: 5.4,1.15 6.6,1.45
  rectangle: 5.4,1.8 6.6,2.1
  rectangle: 5.4,2.45 6.6,2.75
  rectangle: 5.4,3.1 6.6,3.4
  rectangle: 5.4,3.75 6.6,4.05
  rectangle: 3.75,5.4 4.05,6.6
  rectangle: 3.1,5.4 3.4,6.6
  rectangle: 2.45,5.4 2.75,6.6
  rectangle: 1.8,5.4 2.1,6.6
  rectangle: 1.15,5.4 1.45,6.6
  rectangle: 0.5,5.4 0.8,6.6
  rectangle: -0.15,5.4 0.15,6.6
  rectangle: -0.8,5.4 -0.5,6.6
  rectangle: -1.45,5.4 -1.15,6.6
  rectangle: -2.1,5.4 -1.8,6.6
  rectangle: -2.75,5.4 -2.45,6.6
  rectangle: -3.4,5.4 -3.1,6.6
  rectangle: -4.05,5.4 -3.75,6.6
  rectangle: -6.6,3.75 -5.4,4.05
  rectangle: -6.6,3.1 -5.4,3.4
  rectangle: -6.6,2.45 -5.4,2.75
  rectangle: -6.6,1.8 -5.4,2.1
  rectangle: -6.6,1.15 -5.4,1.45
  rectangle: -6.6,0.5 -5.4,0.8
  rectangle: -6.6,-0.15 -5.4,0.15
  rectangle: -6.6,-0.8 -5.4,-0.5
  rectangle: -6.6,-1.45 -5.4,-1.15
  rectangle: -6.6,-2.1 -5.4,-1.8
  rectangle: -6.6,-2.75 -5.4,-2.45
  rectangle: -6.6,-3.4 -5.4,-3.1
  rectangle: -6.6,-4.05 -5.4,-3.75
  lines w0.305: -5.3,-5.3 5.3,-5.3 5.3,5.3 -5.3,5.3 -5.3,-5.3

## QFP64_SOT319 [mm]
pads (64):
  rect 0.6x1.4 smd: 1(-9,-8.5) 2(-8,-8.5) 3(-7,-8.5) 4(-6,-8.5) 5(-5,-8.5) 6(-4,-8.5) 7(-3,-8.5) 8(-2,-8.5) 9(-1,-8.5) 10(0,-8.5) 11(1,-8.5) 12(2,-8.5) 13(3,-8.5) 14(4,-8.5) 15(5,-8.5) 16(6,-8.5) 17(7,-8.5) 18(8,-8.5) 19(9,-8.5) 33(9,8.5) 34(8,8.5) 35(7,8.5) 36(6,8.5) 37(5,8.5) 38(4,8.5) 39(3,8.5) 40(2,8.5) 41(1,8.5) 42(0,8.5) 43(-1,8.5) 44(-2,8.5) 45(-3,8.5) 46(-4,8.5) 47(-5,8.5) 48(-6,8.5) 49(-7,8.5) 50(-8,8.5) 51(-9,8.5)
  rect 1.4x0.6 smd: 20(11.5,-6) 21(11.5,-5) 22(11.5,-4) 23(11.5,-3) 24(11.5,-2) 25(11.5,-1) 26(11.5,0) 27(11.5,1) 28(11.5,2) 29(11.5,3) 30(11.5,4) 31(11.5,5) 32(11.5,6) 52(-11.5,6) 53(-11.5,5) 54(-11.5,4) 55(-11.5,3) 56(-11.5,2) 57(-11.5,1) 58(-11.5,0) 59(-11.5,-1) 60(-11.5,-2) 61(-11.5,-3) 62(-11.5,-4) 63(-11.5,-5) 64(-11.5,-6)
Top Overlay:
  circle w0.203: c-9,-6 r0.4
  lines w0.203: -10.1,-7.1 10.1,-7.1 10.1,7.1 -10.1,7.1 -10.1,-7.1
Mechanical 16:
  rectangle: -9.2,-8.8 -8.8,-7.15
  rectangle: -8.2,-8.8 -7.8,-7.15
  rectangle: -7.2,-8.8 -6.8,-7.15
  rectangle: -6.2,-8.8 -5.8,-7.15
  rectangle: -5.2,-8.8 -4.8,-7.15
  rectangle: -4.2,-8.8 -3.8,-7.15
  rectangle: -3.2,-8.8 -2.8,-7.15
  rectangle: -2.2,-8.8 -1.8,-7.15
  rectangle: -1.2,-8.8 -0.8,-7.15
  rectangle: -0.2,-8.8 0.2,-7.15
  rectangle: 0.8,-8.8 1.2,-7.15
  rectangle: 1.8,-8.8 2.2,-7.15
  rectangle: 2.8,-8.8 3.2,-7.15
  rectangle: 3.8,-8.8 4.2,-7.15
  rectangle: 4.8,-8.8 5.2,-7.15
  rectangle: 5.8,-8.8 6.2,-7.15
  rectangle: 6.8,-8.8 7.2,-7.15
  rectangle: 7.8,-8.8 8.2,-7.15
  rectangle: 8.8,-8.8 9.2,-7.15
  rectangle: 10.15,-6.2 11.8,-5.8
  rectangle: 10.15,-5.2 11.8,-4.8
  rectangle: 10.15,-4.2 11.8,-3.8
  rectangle: 10.15,-3.2 11.8,-2.8
  rectangle: 10.15,-2.2 11.8,-1.8
  rectangle: 10.15,-1.2 11.8,-0.8
  rectangle: 10.15,-0.2 11.8,0.2
  rectangle: 10.15,0.8 11.8,1.2
  rectangle: 10.15,1.8 11.8,2.2
  rectangle: 10.15,2.8 11.8,3.2
  rectangle: 10.15,3.8 11.8,4.2
  rectangle: 10.15,4.8 11.8,5.2
  rectangle: 10.15,5.8 11.8,6.2
  rectangle: 8.8,7.15 9.2,8.8
  rectangle: 7.8,7.15 8.2,8.8
  rectangle: 6.8,7.15 7.2,8.8
  rectangle: 5.8,7.15 6.2,8.8
  rectangle: 4.8,7.15 5.2,8.8
  rectangle: 3.8,7.15 4.2,8.8
  rectangle: 2.8,7.15 3.2,8.8
  rectangle: 1.8,7.15 2.2,8.8
  rectangle: 0.8,7.15 1.2,8.8
  rectangle: -0.2,7.15 0.2,8.8
  rectangle: -1.2,7.15 -0.8,8.8
  rectangle: -2.2,7.15 -1.8,8.8
  rectangle: -3.2,7.15 -2.8,8.8
  rectangle: -4.2,7.15 -3.8,8.8
  rectangle: -5.2,7.15 -4.8,8.8
  rectangle: -6.2,7.15 -5.8,8.8
  rectangle: -7.2,7.15 -6.8,8.8
  rectangle: -8.2,7.15 -7.8,8.8
  rectangle: -9.2,7.15 -8.8,8.8
  rectangle: -11.8,5.8 -10.15,6.2
  rectangle: -11.8,4.8 -10.15,5.2
  rectangle: -11.8,3.8 -10.15,4.2
  rectangle: -11.8,2.8 -10.15,3.2
  rectangle: -11.8,1.8 -10.15,2.2
  rectangle: -11.8,0.8 -10.15,1.2
  rectangle: -11.8,-0.2 -10.15,0.2
  rectangle: -11.8,-1.2 -10.15,-0.8
  rectangle: -11.8,-2.2 -10.15,-1.8
  rectangle: -11.8,-3.2 -10.15,-2.8
  rectangle: -11.8,-4.2 -10.15,-3.8
  rectangle: -11.8,-5.2 -10.15,-4.8
  rectangle: -11.8,-6.2 -10.15,-5.8

## QFP64_SOT393 [mm]
pads (64):
  rect 0.4x1.4 smd: 1(-6,-8.125) 2(-5.2,-8.125) 3(-4.4,-8.125) 4(-3.6,-8.125) 5(-2.8,-8.125) 6(-2,-8.125) 7(-1.2,-8.125) 8(-0.4,-8.125) 9(0.4,-8.125) 10(1.2,-8.125) 11(2,-8.125) 12(2.8,-8.125) 13(3.6,-8.125) 14(4.4,-8.125) 15(5.2,-8.125) 16(6,-8.125) 33(6,8.125) 34(5.2,8.125) 35(4.4,8.125) 36(3.6,8.125) 37(2.8,8.125) 38(2,8.125) 39(1.2,8.125) 40(0.4,8.125) 41(-0.4,8.125) 42(-1.2,8.125) 43(-2,8.125) 44(-2.8,8.125) 45(-3.6,8.125) 46(-4.4,8.125) 47(-5.2,8.125) 48(-6,8.125)
  rect 1.4x0.4 smd: 17(8.125,-6) 18(8.125,-5.2) 19(8.125,-4.4) 20(8.125,-3.6) 21(8.125,-2.8) 22(8.125,-2) 23(8.125,-1.2) 24(8.125,-0.4) 25(8.125,0.4) 26(8.125,1.2) 27(8.125,2) 28(8.125,2.8) 29(8.125,3.6) 30(8.125,4.4) 31(8.125,5.2) 32(8.125,6) 49(-8.125,6) 50(-8.125,5.2) 51(-8.125,4.4) 52(-8.125,3.6) 53(-8.125,2.8) 54(-8.125,2) 55(-8.125,1.2) 56(-8.125,0.4) 57(-8.125,-0.4) 58(-8.125,-1.2) 59(-8.125,-2) 60(-8.125,-2.8) 61(-8.125,-3.6) 62(-8.125,-4.4) 63(-8.125,-5.2) 64(-8.125,-6)
Top Overlay:
  circle w0.203: c-6,-6 r0.4
  lines w0.203: -7,-7 7,-7 7,7 -7,7 -7,-7
Mechanical 16:
  rectangle: -6.15,-8.6 -5.85,-7.075
  rectangle: -5.35,-8.6 -5.05,-7.075
  rectangle: -4.55,-8.6 -4.25,-7.075
  rectangle: -3.75,-8.6 -3.45,-7.075
  rectangle: -2.95,-8.6 -2.65,-7.075
  rectangle: -2.15,-8.6 -1.85,-7.075
  rectangle: -1.35,-8.6 -1.05,-7.075
  rectangle: -0.55,-8.6 -0.25,-7.075
  rectangle: 0.25,-8.6 0.55,-7.075
  rectangle: 1.05,-8.6 1.35,-7.075
  rectangle: 1.85,-8.6 2.15,-7.075
  rectangle: 2.65,-8.6 2.95,-7.075
  rectangle: 3.45,-8.6 3.75,-7.075
  rectangle: 4.25,-8.6 4.55,-7.075
  rectangle: 5.05,-8.6 5.35,-7.075
  rectangle: 5.85,-8.6 6.15,-7.075
  rectangle: 7.075,-6.15 8.6,-5.85
  rectangle: 7.075,-5.35 8.6,-5.05
  rectangle: 7.075,-4.55 8.6,-4.25
  rectangle: 7.075,-3.75 8.6,-3.45
  rectangle: 7.075,-2.95 8.6,-2.65
  rectangle: 7.075,-2.15 8.6,-1.85
  rectangle: 7.075,-1.35 8.6,-1.05
  rectangle: 7.075,-0.55 8.6,-0.25
  rectangle: 7.075,0.25 8.6,0.55
  rectangle: 7.075,1.05 8.6,1.35
  rectangle: 7.075,1.85 8.6,2.15
  rectangle: 7.075,2.65 8.6,2.95
  rectangle: 7.075,3.45 8.6,3.75
  rectangle: 7.075,4.25 8.6,4.55
  rectangle: 7.075,5.05 8.6,5.35
  rectangle: 7.075,5.85 8.6,6.15
  rectangle: 5.85,7.075 6.15,8.6
  rectangle: 5.05,7.075 5.35,8.6
  rectangle: 4.25,7.075 4.55,8.6
  rectangle: 3.45,7.075 3.75,8.6
  rectangle: 2.65,7.075 2.95,8.6
  rectangle: 1.85,7.075 2.15,8.6
  rectangle: 1.05,7.075 1.35,8.6
  rectangle: 0.25,7.075 0.55,8.6
  rectangle: -0.55,7.075 -0.25,8.6
  rectangle: -1.35,7.075 -1.05,8.6
  rectangle: -2.15,7.075 -1.85,8.6
  rectangle: -2.95,7.075 -2.65,8.6
  rectangle: -3.75,7.075 -3.45,8.6
  rectangle: -4.55,7.075 -4.25,8.6
  rectangle: -5.35,7.075 -5.05,8.6
  rectangle: -6.15,7.075 -5.85,8.6
  rectangle: -8.6,5.85 -7.075,6.15
  rectangle: -8.6,5.05 -7.075,5.35
  rectangle: -8.6,4.25 -7.075,4.55
  rectangle: -8.6,3.45 -7.075,3.75
  rectangle: -8.6,2.65 -7.075,2.95
  rectangle: -8.6,1.85 -7.075,2.15
  rectangle: -8.6,1.05 -7.075,1.35
  rectangle: -8.6,0.25 -7.075,0.55
  rectangle: -8.6,-0.55 -7.075,-0.25
  rectangle: -8.6,-1.35 -7.075,-1.05
  rectangle: -8.6,-2.15 -7.075,-1.85
  rectangle: -8.6,-2.95 -7.075,-2.65
  rectangle: -8.6,-3.75 -7.075,-3.45
  rectangle: -8.6,-4.55 -7.075,-4.25
  rectangle: -8.6,-5.35 -7.075,-5.05
  rectangle: -8.6,-6.15 -7.075,-5.85